# Altium footprint library TMS320F28335GF.PcbLib: 39 footprints (part 2 of 3)
Each footprint in its own frame and in the unit in brackets; x right, y up, seen from the top. Pads: shape width x height; smd on the part's side, far side on the other; paste and mask are expansions set on the pad; w line width, h text height; cw(c..) or ccw(c..) is an arc to the next point about the centre after c.
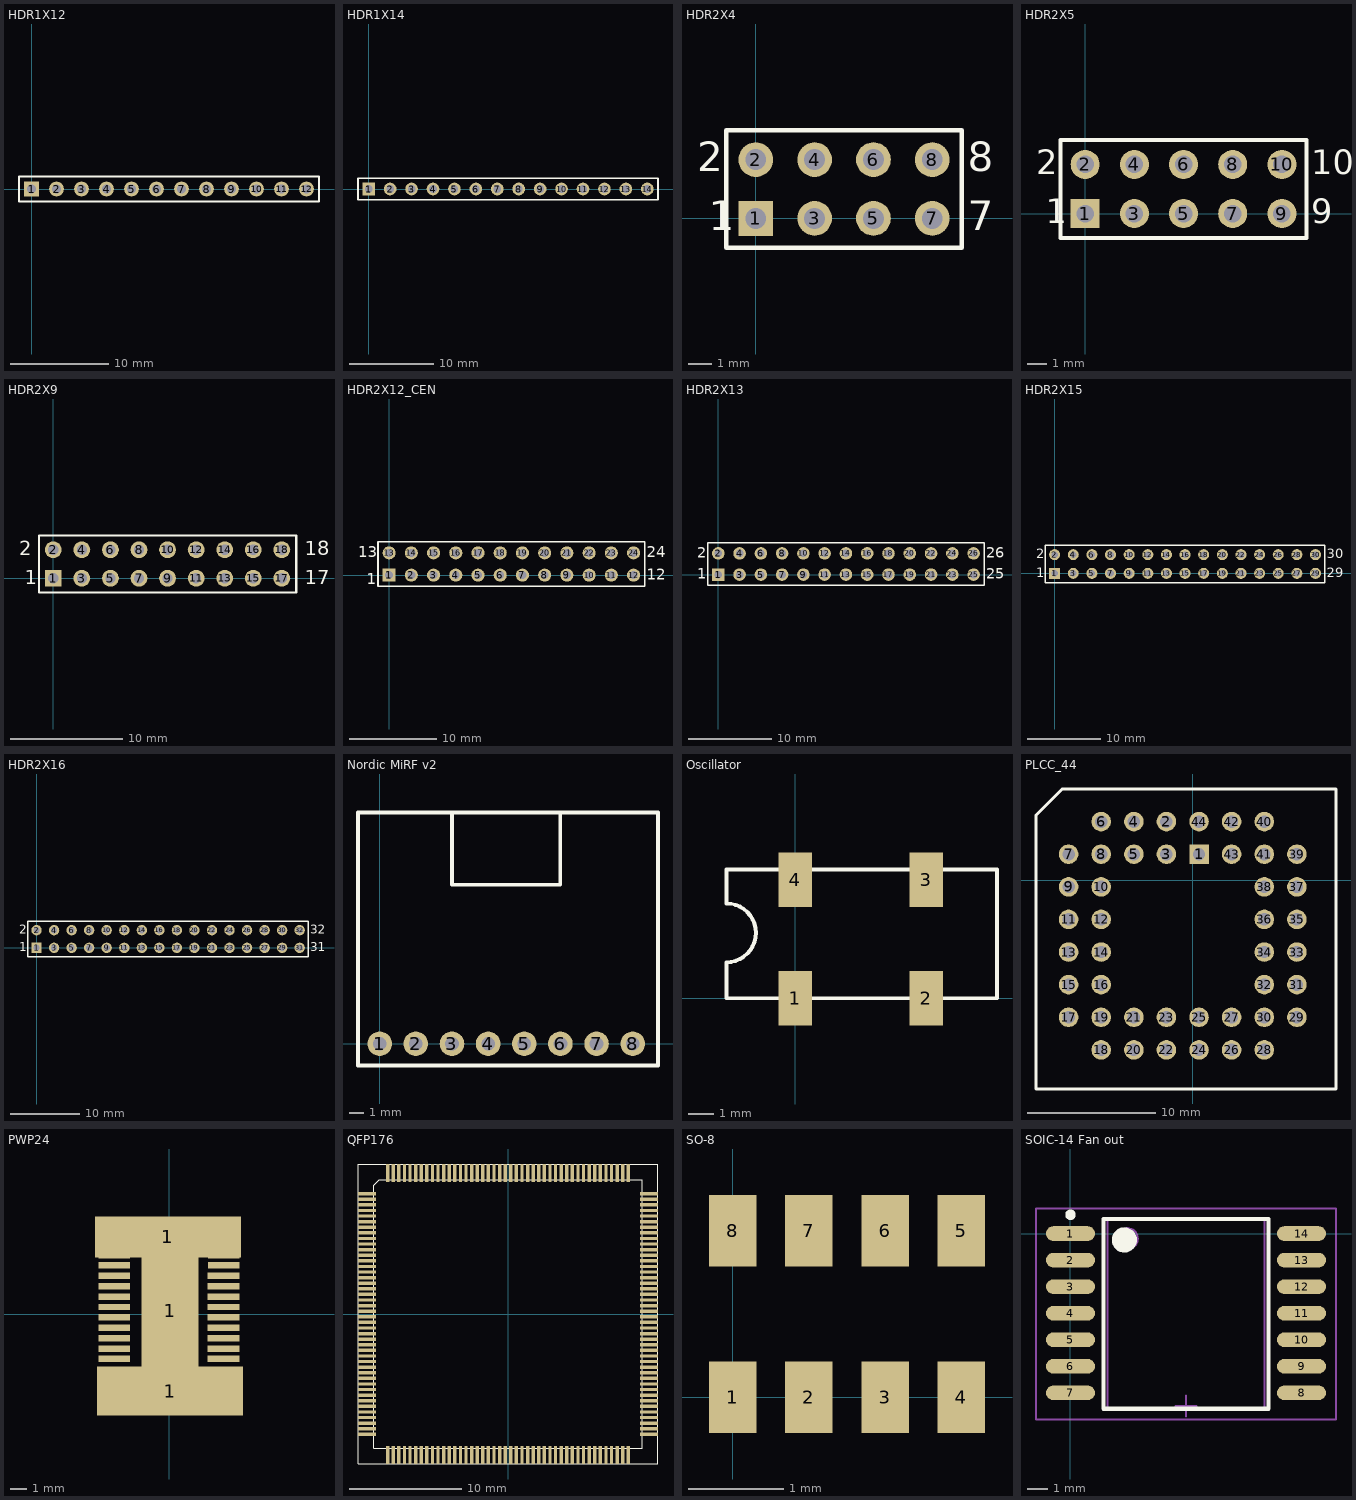
[diagram p1: the footprints below, top view; thin cyan lines are the x and y axes]

## HDR1X12 [mm]
pads (12):
  rect 1.5x1.5 hole 0.9: 1(0,0)
  round 1.5 hole 0.9: 2(2.54,0) 3(5.08,0) 4(7.62,0) 5(10.16,0) 6(12.7,0) 7(15.24,0) 8(17.78,0) 9(20.32,0) 10(22.86,0) 11(25.4,0) 12(27.94,0)
Top Overlay:
  lines w0.2: -1.27,-1.27 -1.27,1.27 0.635,1.27 29.21,1.27 29.21,-1.27 -1.27,-1.27

## HDR1X14 [mm]
pads (14):
  rect 1.5x1.5 hole 0.9: 1(0,0)
  round 1.5 hole 0.9: 2(2.54,0) 3(5.08,0) 4(7.62,0) 5(10.16,0) 6(12.7,0) 7(15.24,0) 8(17.78,0) 9(20.32,0) 10(22.86,0) 11(25.4,0) 12(27.94,0) 13(30.48,0) 14(33.02,0)
Top Overlay:
  lines w0.2: -1.27,-1.27 -1.27,1.27 0.635,1.27 34.29,1.27 34.29,-1.27 -1.27,-1.27

## HDR2X4 [mm]
pads (8):
  rect 1.5x1.5 hole 0.9: 1(0,0)
  round 1.5 hole 0.9: 2(0,2.54) 3(2.54,0) 4(2.54,2.54) 5(5.08,0) 6(5.08,2.54) 7(7.62,0) 8(7.62,2.54)
Top Overlay:
  lines w0.2: -1.27,-1.27 8.89,-1.27 8.89,3.81 -1.27,3.81 -1.27,-1.27
  text "2" at -2.54,2.032 h1.27
  text "1" at -2.032,-0.508 h1.27
  text "7" at 9.144,-0.508 h1.27
  text "8" at 9.144,2.032 h1.27

## HDR2X5 [mm]
pads (10):
  rect 1.5x1.5 hole 0.9: 1(0,0)
  round 1.5 hole 0.9: 2(0,2.54) 3(2.54,0) 4(2.54,2.54) 5(5.08,0) 6(5.08,2.54) 7(7.62,0) 8(7.62,2.54) 9(10.16,0) 10(10.16,2.54)
Top Overlay:
  lines w0.2: -1.27,-1.27 11.43,-1.27 11.43,3.81 -1.27,3.81 -1.27,-1.27
  text "10" at 11.684,2.032 h1.27
  text "9" at 11.684,-0.508 h1.27
  text "1" at -2.032,-0.508 h1.27
  text "2" at -2.54,2.032 h1.27

## HDR2X9 [mm]
pads (18):
  rect 1.5x1.5 hole 0.9: 1(0,0)
  round 1.5 hole 0.9: 2(0,2.54) 3(2.54,0) 4(2.54,2.54) 5(5.08,0) 6(5.08,2.54) 7(7.62,0) 8(7.62,2.54) 9(10.16,0) 10(10.16,2.54) 11(12.7,0) 12(12.7,2.54) 13(15.24,0) 14(15.24,2.54) 15(17.78,0) 16(17.78,2.54) 17(20.32,0) 18(20.32,2.54)
Top Overlay:
  lines w0.2: -1.27,-1.27 21.59,-1.27 21.59,3.81 -1.27,3.81 -1.27,-1.27
  text "18" at 22.352,2.032 h1.27
  text "17" at 22.352,-0.508 h1.27
  text "1" at -2.54,-0.508 h1.27
  text "2" at -3.048,2.032 h1.27

## HDR2X12_CEN [mm]
pads (24):
  rect 1.5x1.5 hole 0.9: 1(0,0)
  round 1.5 hole 0.9: 2(2.54,0) 3(5.08,0) 4(7.62,0) 5(10.16,0) 6(12.7,0) 7(15.24,0) 8(17.78,0) 9(20.32,0) 10(22.86,0) 11(25.4,0) 12(27.94,0) 13(0,2.54) 14(2.54,2.54) 15(5.08,2.54) 16(7.62,2.54) 17(10.16,2.54) 18(12.7,2.54) 19(15.24,2.54) 20(17.78,2.54) 21(20.32,2.54) 22(22.86,2.54) 23(25.4,2.54) 24(27.94,2.54)
Top Overlay:
  lines w0.2: -1.27,-1.27 29.21,-1.27 29.21,3.81 -1.27,3.81 -1.27,-1.27
  text "1" at -2.54,-1.016 h1.27
  text "13" at -3.556,2.032 h1.27
  text "12" at 29.464,-0.508 h1.27
  text "24" at 29.464,2.032 h1.27

## HDR2X13 [mm]
pads (26):
  rect 1.5x1.5 hole 0.9: 1(0,0)
  round 1.5 hole 0.9: 2(0,2.54) 3(2.54,0) 4(2.54,2.54) 5(5.08,0) 6(5.08,2.54) 7(7.62,0) 8(7.62,2.54) 9(10.16,0) 10(10.16,2.54) 11(12.7,0) 12(12.7,2.54) 13(15.24,0) 14(15.24,2.54) 15(17.78,0) 16(17.78,2.54) 17(20.32,0) 18(20.32,2.54) 19(22.86,0) 20(22.86,2.54) 21(25.4,0) 22(25.4,2.54) 23(27.94,0) 24(27.94,2.54) 25(30.48,0) 26(30.48,2.54)
Top Overlay:
  lines w0.2: -1.27,-1.27 -1.27,3.81 31.75,3.81 31.75,-1.27 -1.27,-1.27
  text "2" at -2.54,2.032 h1.27
  text "1" at -2.54,-0.508 h1.27
  text "25" at 32.004,-0.508 h1.27
  text "26" at 32.004,2.032 h1.27

## HDR2X15 [mm]
pads (30):
  rect 1.5x1.5 hole 0.9: 1(0,0)
  round 1.5 hole 0.9: 2(0,2.54) 3(2.54,0) 4(2.54,2.54) 5(5.08,0) 6(5.08,2.54) 7(7.62,0) 8(7.62,2.54) 9(10.16,0) 10(10.16,2.54) 11(12.7,0) 12(12.7,2.54) 13(15.24,0) 14(15.24,2.54) 15(17.78,0) 16(17.78,2.54) 17(20.32,0) 18(20.32,2.54) 19(22.86,0) 20(22.86,2.54) 21(25.4,0) 22(25.4,2.54) 23(27.94,0) 24(27.94,2.54) 25(30.48,0) 26(30.48,2.54) 27(33.02,0) 28(33.02,2.54) 29(35.56,0) 30(35.56,2.54)
Top Overlay:
  lines w0.2: -1.27,-1.27 36.83,-1.27 36.83,3.81 -1.27,3.81 -1.27,-1.27
  text "1" at -2.54,-0.508 h1.27
  text "2" at -2.54,2.032 h1.27
  text "29" at 37.084,-0.508 h1.27
  text "30" at 37.084,2.032 h1.27

## HDR2X16 [mm]
pads (32):
  rect 1.5x1.5 hole 0.9: 1(0,0)
  round 1.5 hole 0.9: 2(0,2.54) 3(2.54,0) 4(2.54,2.54) 5(5.08,0) 6(5.08,2.54) 7(7.62,0) 8(7.62,2.54) 9(10.16,0) 10(10.16,2.54) 11(12.7,0) 12(12.7,2.54) 13(15.24,0) 14(15.24,2.54) 15(17.78,0) 16(17.78,2.54) 17(20.32,0) 18(20.32,2.54) 19(22.86,0) 20(22.86,2.54) 21(25.4,0) 22(25.4,2.54) 23(27.94,0) 24(27.94,2.54) 25(30.48,0) 26(30.48,2.54) 27(33.02,0) 28(33.02,2.54) 29(35.56,0) 30(35.56,2.54) 31(38.1,0) 32(38.1,2.54)
Top Overlay:
  lines w0.2: -1.27,-1.27 39.37,-1.27 39.37,3.81 -1.27,3.81 -1.27,-1.27
  text "2" at -2.54,2.032 h1.27
  text "1" at -2.54,-0.508 h1.27
  text "31" at 39.624,-0.508 h1.27
  text "32" at 39.624,2.032 h1.27

## Nordic MiRF v2 [mil]
pads (8):
  round 68 hole 38: 1(0,0) 2(100,0) 3(200,0) 4(300,0) 5(400,0) 6(500,0) 7(600,0) 8(700,0)
Top Overlay:
  lines w10: 200,640 200,440 500,440 500,640 ; -60,-60 -60,640 770,640 770,-60 -60,-60

## Oscillator [mm]
pads (4):
  rect 1.3x2.1 smd: 1(0,0) 2(5.08,0) 3(5.08,4.6) 4(0,4.6)
Top Overlay:
  lines w0.152: -2.667,0 -2.667,1.397 ccw(c-2.667,2.54) -2.667,3.683 -2.667,5 7.833,5 7.833,0 -2.667,0

## PLCC_44 [mil]
pads (44):
  rect 60x60 hole 38: 1(20,80)
  round 60 hole 38: 2(-80,180) 3(-80,80) 4(-180,180) 5(-180,80) 6(-280,180) 7(-380,80) 8(-280,80) 9(-380,-20) 10(-280,-20) 11(-380,-120) 12(-280,-120) 13(-380,-220) 14(-280,-220) 15(-380,-320) 16(-280,-320) 17(-380,-420) 18(-280,-520) 19(-280,-420) 20(-180,-520) 21(-180,-420) 22(-80,-520) 23(-80,-420) 24(20,-520) 25(20,-420) 26(120,-520) 27(120,-420) 28(220,-520) 29(320,-420) 30(220,-420) 31(320,-320) 32(220,-320) 33(320,-220) 34(220,-220) 35(320,-120) 36(220,-120) 37(320,-20) 38(220,-20) 39(320,80) 40(220,180) 41(220,80) 42(120,180) 43(120,80) 44(20,180)
Top Overlay:
  lines w10: -480,-640 440,-640 440,280 -400,280 -480,200 -480,-640

## PWP24 [mm]
pads (27):
  rect 1.95x0.4 smd: 1(-3.365,3.632) 2(-3.365,2.997) 3(-3.365,2.352) 4(-3.365,1.712) 5(-3.365,1.072) 6(-3.365,0.432) 7(-3.365,-0.208) 8(-3.365,-0.848) 9(-3.365,-1.488) 10(-3.365,-2.128) 11(-3.365,-2.768) 12(-3.365,-3.48) 13(3.366,-3.48) 14(3.358,-2.768) 15(3.358,-2.128) 16(3.358,-1.488) 17(3.358,-0.848) 18(3.358,-0.208) 19(3.358,0.432) 20(3.358,1.072) 21(3.358,1.712) 22(3.358,2.352) 23(3.366,2.997) 24(3.366,3.632)
  rect 9x2.54 smd: 1(-0.064,4.75)
  rect 9x3 smd: 1(0.064,-4.75)
  rect 3.5x7.9 smd: 1(0.064,0.203)

## QFP176 [mil]
pads (176):
  rect 63x11.8 smd: 1(-496.1,423.2) 2(-496.1,403.5) 3(-496.1,383.9) 4(-496.1,364.2) 5(-496.1,344.5) 6(-496.1,324.8) 7(-496.1,305.1) 8(-496.1,285.4) 9(-496.1,265.7) 10(-496.1,246.1) 11(-496.1,226.4) 12(-496.1,206.7) 13(-496.1,187) 14(-496.1,167.3) 15(-496.1,147.6) 16(-496.1,128) 17(-496.1,108.3) 18(-496.1,88.6) 19(-496.1,68.9) 20(-496.1,49.2) 21(-496.1,29.5) 22(-496.1,9.8) 23(-496.1,-9.8) 24(-496.1,-29.5) 25(-496.1,-49.2) 26(-496.1,-68.9) 27(-496.1,-88.6) 28(-496.1,-108.3) 29(-496.1,-128) 30(-496.1,-147.6) 31(-496.1,-167.3) 32(-496.1,-187) 33(-496.1,-206.7) 34(-496.1,-226.4) 35(-496.1,-246.1) 36(-496.1,-265.7) 37(-496.1,-285.4) 38(-496.1,-305.1) 39(-496.1,-324.8) 40(-496.1,-344.5) 41(-496.1,-364.2) 42(-496.1,-383.9) 43(-496.1,-403.5) 44(-496.1,-423.2) 89(496.1,-423.2) 90(496.1,-403.5) 91(496.1,-383.9) 92(496.1,-364.2) 93(496.1,-344.5) 94(496.1,-324.8) 95(496.1,-305.1) 96(496.1,-285.4) 97(496.1,-265.7) 98(496.1,-246.1) 99(496.1,-226.4) 100(496.1,-206.7) 101(496.1,-187) 102(496.1,-167.3) 103(496.1,-147.6) 104(496.1,-128) 105(496.1,-108.3) 106(496.1,-88.6) 107(496.1,-68.9) 108(496.1,-49.2) 109(496.1,-29.5) 110(496.1,-9.8) 111(496.1,9.8) 112(496.1,29.5) 113(496.1,49.2) 114(496.1,68.9) 115(496.1,88.6) 116(496.1,108.3) 117(496.1,128) 118(496.1,147.6) 119(496.1,167.3) 120(496.1,187) 121(496.1,206.7) 122(496.1,226.4) 123(496.1,246.1) 124(496.1,265.7) 125(496.1,285.4) 126(496.1,305.1) 127(496.1,324.8) 128(496.1,344.5) 129(496.1,364.2) 130(496.1,383.9) 131(496.1,403.5) 132(496.1,423.2)
  rect 11.8x63 smd: 45(-423.2,-496.1) 46(-403.5,-496.1) 47(-383.9,-496.1) 48(-364.2,-496.1) 49(-344.5,-496.1) 50(-324.8,-496.1) 51(-305.1,-496.1) 52(-285.4,-496.1) 53(-265.7,-496.1) 54(-246.1,-496.1) 55(-226.4,-496.1) 56(-206.7,-496.1) 57(-187,-496.1) 58(-167.3,-496.1) 59(-147.6,-496.1) 60(-128,-496.1) 61(-108.3,-496.1) 62(-88.6,-496.1) 63(-68.9,-496.1) 64(-49.2,-496.1) 65(-29.5,-496.1) 66(-9.8,-496.1) 67(9.8,-496.1) 68(29.5,-496.1) 69(49.2,-496.1) 70(68.9,-496.1) 71(88.6,-496.1) 72(108.3,-496.1) 73(128,-496.1) 74(147.6,-496.1) 75(167.3,-496.1) 76(187,-496.1) 77(206.7,-496.1) 78(226.4,-496.1) 79(246.1,-496.1) 80(265.7,-496.1) 81(285.4,-496.1) 82(305.1,-496.1) 83(324.8,-496.1) 84(344.5,-496.1) 85(364.2,-496.1) 86(383.9,-496.1) 87(403.5,-496.1) 88(423.2,-496.1) 133(423.2,496.1) 134(403.5,496.1) 135(383.9,496.1) 136(364.2,496.1) 137(344.5,496.1) 138(324.8,496.1) 139(305.1,496.1) 140(285.4,496.1) 141(265.7,496.1) 142(246.1,496.1) 143(226.4,496.1) 144(206.7,496.1) 145(187,496.1) 146(167.3,496.1) 147(147.6,496.1) 148(128,496.1) 149(108.3,496.1) 150(88.6,496.1) 151(68.9,496.1) 152(49.2,496.1) 153(29.5,496.1) 154(9.8,496.1) 155(-9.8,496.1) 156(-29.5,496.1) 157(-49.2,496.1) 158(-68.9,496.1) 159(-88.6,496.1) 160(-108.3,496.1) 161(-128,496.1) 162(-147.6,496.1) 163(-167.3,496.1) 164(-187,496.1) 165(-206.7,496.1) 166(-226.4,496.1) 167(-246.1,496.1) 168(-265.7,496.1) 169(-285.4,496.1) 170(-305.1,496.1) 171(-324.8,496.1) 172(-344.5,496.1) 173(-364.2,496.1) 174(-383.9,496.1) 175(-403.5,496.1) 176(-423.2,496.1)
Top Overlay:
  lines w0.4: -527.6,-527.6 -527.6,527.6 527.6,527.6 527.6,-527.6 -527.6,-527.6 ; -472.4,-472.4 -472.4,452.8 -452.8,472.4 472.4,472.4 472.4,-472.4 -472.4,-472.4
  text "." at -504,501 h35

## SO-8 [mm]
pads (8):
  rect 0.5x0.75 smd: 1(0,0) 2(0.8,0) 3(1.6,0) 4(2.4,0) 5(2.4,1.75) 6(1.6,1.75) 7(0.8,1.75) 8(0,1.75)

## SOIC-14 Fan out [mm]
pads (14):
  oval 2.35x0.7 smd: 1(0,0) 2(0,-1.27) 3(0,-2.54) 4(0,-3.81) 5(0,-5.08) 6(0,-6.35) 7(0,-7.62) 8(11.05,-7.62) 9(11.05,-6.35) 10(11.05,-5.08) 11(11.05,-3.81) 12(11.05,-2.54) 13(11.05,-1.27) 14(11.05,0)
Top Overlay:
  circle w0.25: c0,0.9 r0.125
  circle w0.6: c2.575,-0.305 r0.3
  lines w0.2: 1.575,-8.382 1.575,0.695 9.475,0.695 9.475,-8.382 1.575,-8.382
Mechanical 13:
  circle w0.1: c2.72,-0.24 r0.5
  lines w0.1: 1.77,-8.382 1.77,0.71 9.28,0.71 9.28,-8.382 1.77,-8.382
Mechanical 15:
  lines w0.1: 5.025,-8.255 6.025,-8.255 ; 5.525,-8.755 5.525,-7.755 ; -1.65,-8.89 -1.65,1.195 12.7,1.195 12.7,-8.89 -1.65,-8.89
3D body: height 2.59, standoff 0.25, extent 1.77,-8.382 9.28,0.71